# Altium footprint library DECODER BCD.PcbLib: 3 footprints
Each footprint in its own frame and in the unit in brackets; x right, y up, seen from the top. Pads: shape width x height; smd on the part's side, far side on the other; paste and mask are expansions set on the pad; w line width, h text height; cw(c..) or ccw(c..) is an arc to the next point about the centre after c.
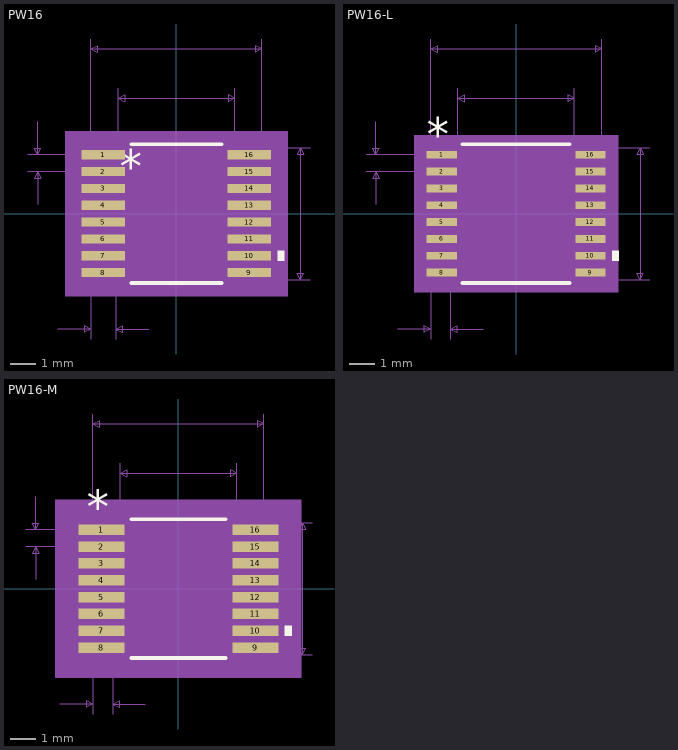
[diagram p0: the footprints below, top view; thin cyan lines are the x and y axes]

## PW16 [mil]
pads (16):
  rect 66x14 smd: 1(-111,89.57) 2(-111,63.98) 3(-111,38.39) 4(-111,12.8) 5(-111,-12.8) 6(-111,-38.39) 7(-111,-63.98) 8(-111,-89.57) 9(111,-89.57) 10(111,-63.98) 11(111,-38.39) 12(111,-12.8) 13(111,12.8) 14(111,38.39) 15(111,63.98) 16(111,89.57)
Top Overlay:
  region: 154,-56.48 164,-56.48 164,-71.48 154,-71.48
  lines w6: -68.42,-105.5 68.42,-105.5 ; -68.42,105.5 68.42,105.5
  text "*" at -86,47.5 h50
Mechanical 5:
  region: 169,-125.5 -169,-125.5 -169,125.5 169,125.5
Mechanical 7:
  lines w1: -226,63.98 -111,63.98 ; -226,89.57 -111,89.57 ; -211,13.98 -211,63.98 ; -211,139.57 -211,89.57 ; -180,-175.5 -130,-175.5 ; -130,-190.5 -130,0 -130,265.5 ; -92,-190.5 -92,0 ; -88.5,0 -88.5,190.5 ; -42,-175.5 -92,-175.5 ; 0,-100.5 203.5,-100.5 ; 0,100.5 203.5,100.5 ; 88.5,0 88.5,190.5 ; 130,0 130,265.5 ; -211,63.98 -216,53.98 -206,53.98 -211,63.98 ; -211,89.57 -216,99.57 -206,99.57 -211,89.57 ; -130,-175.5 -140,-170.5 -140,-180.5 -130,-175.5 ; -130,250.5 130,250.5 ; -130,250.5 -120,255.5 -120,245.5 -130,250.5 ; -92,-175.5 -82,-170.5 -82,-180.5 -92,-175.5 ; -88.5,175.5 88.5,175.5 ; -88.5,175.5 -78.5,180.5 -78.5,170.5 -88.5,175.5 ; 88.5,175.5 78.5,180.5 78.5,170.5 88.5,175.5 ; 130,250.5 120,255.5 120,245.5 130,250.5 ; 188.5,-100.5 188.5,100.5 ; 188.5,-100.5 183.5,-90.5 193.5,-90.5 188.5,-100.5 ; 188.5,100.5 183.5,90.5 193.5,90.5 188.5,100.5
  text "Default Padstyle: RX66Y14D0T" at -350,-300.5 h50
  text "Pin One Padstyle: RX66Y14D0T" at -350,-360.5 h50
  text "Alt 1 Padstyle: OX60Y90D30P" at -337.5,-540.5 h50
  text "Alt 2 Padstyle: OX90Y60D30P" at -337.5,-600.5 h50
  text "0.177in/4.496mm" at -93.75,195.5 h25
  text "0.26in/6.604mm" at -87.5,270.5 h25
  text "0.201in/5.105mm" at 208.5,-12.5 h25
  text "0.026in/0.65mm" at -406,64.27 h25
  text "0.03in/0.762mm" at -198.5,-220.5 h25
Mechanical 13:
  lines w0: -12,100.5 ccw(c0,100.5) 12,100.5
  lines w1: -130,-95.57 -130,-83.57 -88.5,-83.57 -88.5,-95.57 -130,-95.57 ; -130,-69.98 -130,-57.98 -88.5,-57.98 -88.5,-69.98 -130,-69.98 ; -130,-44.39 -130,-32.39 -88.5,-32.39 -88.5,-44.39 -130,-44.39 ; -130,-18.8 -130,-6.8 -88.5,-6.8 -88.5,-18.8 -130,-18.8 ; -130,6.8 -130,18.8 -88.5,18.8 -88.5,6.8 -130,6.8 ; -130,32.39 -130,44.39 -88.5,44.39 -88.5,32.39 -130,32.39 ; -130,57.98 -130,69.98 -88.5,69.98 -88.5,57.98 -130,57.98 ; -130,83.57 -130,95.57 -88.5,95.57 -88.5,83.57 -130,83.57 ; -88.5,-100.5 88.5,-100.5 88.5,100.5 -88.5,100.5 -88.5,-100.5 ; 88.5,-95.57 88.5,-83.57 130,-83.57 130,-95.57 88.5,-95.57 ; 88.5,-69.98 88.5,-57.98 130,-57.98 130,-69.98 88.5,-69.98 ; 88.5,-44.39 88.5,-32.39 130,-32.39 130,-44.39 88.5,-44.39 ; 88.5,-18.8 88.5,-6.8 130,-6.8 130,-18.8 88.5,-18.8 ; 88.5,6.8 88.5,18.8 130,18.8 130,6.8 88.5,6.8 ; 88.5,32.39 88.5,44.39 130,44.39 130,32.39 88.5,32.39 ; 88.5,57.98 88.5,69.98 130,69.98 130,57.98 88.5,57.98 ; 88.5,83.57 88.5,95.57 130,95.57 130,83.57 88.5,83.57
  text "*" at -86,47.5 h50
Mechanical 15:
  region: -98.5,-104.36 -154,-104.36 -154,104.36 -98.5,104.36 -98.5,110.5 98.5,110.5 98.5,104.36 154,104.36 154,-104.36 98.5,-104.36 98.5,-110.5 -98.5,-110.5
  lines w6: -154,-104.36 -154,104.36 -98.5,104.36 -98.5,110.5 98.5,110.5 98.5,104.36 154,104.36 154,-104.36 98.5,-104.36 98.5,-110.5 -98.5,-110.5 -98.5,-104.36 -154,-104.36
3D body: height 10, standoff 0, extent 0,0 10,10

## PW16-L [mil]
pads (16):
  rect 46x12 smd paste+0 mask+0: 1(-113,89.57) 2(-113,63.98) 3(-113,38.39) 4(-113,12.8) 5(-113,-12.8) 6(-113,-38.39) 7(-113,-63.98) 8(-113,-89.57) 9(113,-89.57) 10(113,-63.98) 11(113,-38.39) 12(113,-12.8) 13(113,12.8) 14(113,38.39) 15(113,63.98) 16(113,89.57)
Top Overlay:
  region: 146,-56.48 156,-56.48 156,-71.48 146,-71.48
  lines w6: -81.46,-105.5 81.46,-105.5 ; -81.46,105.5 81.46,105.5
  text "*" at -135.5,96.57 h50
Mechanical 5:
  region: 155,-119.5 -155,-119.5 -155,119.5 155,119.5
Mechanical 7:
  lines w1: -228,63.98 -113,63.98 ; -228,89.57 -113,89.57 ; -213,13.98 -213,63.98 ; -213,139.57 -213,89.57 ; -180,-175.5 -130,-175.5 ; -130,-190.5 -130,0 -130,265.5 ; -100,-190.5 -100,0 ; -88.5,0 -88.5,190.5 ; -50,-175.5 -100,-175.5 ; 0,-100.5 203.5,-100.5 ; 0,100.5 203.5,100.5 ; 88.5,0 88.5,190.5 ; 130,0 130,265.5 ; -213,63.98 -218,53.98 -208,53.98 -213,63.98 ; -213,89.57 -218,99.57 -208,99.57 -213,89.57 ; -130,-175.5 -140,-170.5 -140,-180.5 -130,-175.5 ; -130,250.5 130,250.5 ; -130,250.5 -120,255.5 -120,245.5 -130,250.5 ; -100,-175.5 -90,-170.5 -90,-180.5 -100,-175.5 ; -88.5,175.5 88.5,175.5 ; -88.5,175.5 -78.5,180.5 -78.5,170.5 -88.5,175.5 ; 88.5,175.5 78.5,180.5 78.5,170.5 88.5,175.5 ; 130,250.5 120,255.5 120,245.5 130,250.5 ; 188.5,-100.5 188.5,100.5 ; 188.5,-100.5 183.5,-90.5 193.5,-90.5 188.5,-100.5 ; 188.5,100.5 183.5,90.5 193.5,90.5 188.5,100.5
  text "Default Padstyle: RX46Y12D0T" at -350,-300.5 h50
  text "Pin One Padstyle: RX46Y12D0T" at -350,-360.5 h50
  text "Alt 1 Padstyle: OX60Y90D30P" at -337.5,-540.5 h50
  text "Alt 2 Padstyle: OX90Y60D30P" at -337.5,-600.5 h50
  text "0.177in/4.496mm" at -93.75,195.5 h25
  text "0.26in/6.604mm" at -87.5,270.5 h25
  text "0.201in/5.105mm" at 208.5,-12.5 h25
  text "0.026in/0.65mm" at -408,64.27 h25
  text "0.03in/0.762mm" at -202.5,-220.5 h25
Mechanical 13:
  lines w0: -12,100.5 ccw(c0,100.5) 12,100.5
  lines w1: -130,-95.57 -130,-83.57 -88.5,-83.57 -88.5,-95.57 -130,-95.57 ; -130,-69.98 -130,-57.98 -88.5,-57.98 -88.5,-69.98 -130,-69.98 ; -130,-44.39 -130,-32.39 -88.5,-32.39 -88.5,-44.39 -130,-44.39 ; -130,-18.8 -130,-6.8 -88.5,-6.8 -88.5,-18.8 -130,-18.8 ; -130,6.8 -130,18.8 -88.5,18.8 -88.5,6.8 -130,6.8 ; -130,32.39 -130,44.39 -88.5,44.39 -88.5,32.39 -130,32.39 ; -130,57.98 -130,69.98 -88.5,69.98 -88.5,57.98 -130,57.98 ; -130,83.57 -130,95.57 -88.5,95.57 -88.5,83.57 -130,83.57 ; -88.5,-100.5 88.5,-100.5 88.5,100.5 -88.5,100.5 -88.5,-100.5 ; 88.5,-95.57 88.5,-83.57 130,-83.57 130,-95.57 88.5,-95.57 ; 88.5,-69.98 88.5,-57.98 130,-57.98 130,-69.98 88.5,-69.98 ; 88.5,-44.39 88.5,-32.39 130,-32.39 130,-44.39 88.5,-44.39 ; 88.5,-18.8 88.5,-6.8 130,-6.8 130,-18.8 88.5,-18.8 ; 88.5,6.8 88.5,18.8 130,18.8 130,6.8 88.5,6.8 ; 88.5,32.39 88.5,44.39 130,44.39 130,32.39 88.5,32.39 ; 88.5,57.98 88.5,69.98 130,69.98 130,57.98 88.5,57.98 ; 88.5,83.57 88.5,95.57 130,95.57 130,83.57 88.5,83.57
  text "*" at -86,47.5 h50
Mechanical 15:
  region: -92.5,-99.57 -140,-99.57 -140,99.57 -92.5,99.57 -92.5,104.5 92.5,104.5 92.5,99.57 140,99.57 140,-99.57 92.5,-99.57 92.5,-104.5 -92.5,-104.5
  lines w6: -140,-99.57 -140,99.57 -92.5,99.57 -92.5,104.5 92.5,104.5 92.5,99.57 140,99.57 140,-99.57 92.5,-99.57 92.5,-104.5 -92.5,-104.5 -92.5,-99.57 -140,-99.57
3D body: height 10, standoff 0, extent 0,0 10,10

## PW16-M [mil]
pads (16):
  rect 70x16 smd paste+0 mask+0: 1(-117,89.57) 2(-117,63.98) 3(-117,38.39) 4(-117,12.8) 5(-117,-12.8) 6(-117,-38.39) 7(-117,-63.98) 8(-117,-89.57) 9(117,-89.57) 10(117,-63.98) 11(117,-38.39) 12(117,-12.8) 13(117,12.8) 14(117,38.39) 15(117,63.98) 16(117,89.57)
Top Overlay:
  region: 162,-56.48 172,-56.48 172,-71.48 162,-71.48
  lines w6: -71.58,-105.5 71.58,-105.5 ; -71.58,105.5 71.58,105.5
  text "*" at -139.5,100.57 h50
Mechanical 5:
  region: 187,-135.5 -187,-135.5 -187,135.5 187,135.5
Mechanical 7:
  lines w1: -232,63.98 -117,63.98 ; -232,89.57 -117,89.57 ; -217,13.98 -217,63.98 ; -217,139.57 -217,89.57 ; -180,-175.5 -130,-175.5 ; -130,-190.5 -130,0 -130,265.5 ; -100,-190.5 -100,0 ; -88.5,0 -88.5,190.5 ; -50,-175.5 -100,-175.5 ; 0,-100.5 203.5,-100.5 ; 0,100.5 203.5,100.5 ; 88.5,0 88.5,190.5 ; 130,0 130,265.5 ; -217,63.98 -222,53.98 -212,53.98 -217,63.98 ; -217,89.57 -222,99.57 -212,99.57 -217,89.57 ; -130,-175.5 -140,-170.5 -140,-180.5 -130,-175.5 ; -130,250.5 130,250.5 ; -130,250.5 -120,255.5 -120,245.5 -130,250.5 ; -100,-175.5 -90,-170.5 -90,-180.5 -100,-175.5 ; -88.5,175.5 88.5,175.5 ; -88.5,175.5 -78.5,180.5 -78.5,170.5 -88.5,175.5 ; 88.5,175.5 78.5,180.5 78.5,170.5 88.5,175.5 ; 130,250.5 120,255.5 120,245.5 130,250.5 ; 188.5,-100.5 188.5,100.5 ; 188.5,-100.5 183.5,-90.5 193.5,-90.5 188.5,-100.5 ; 188.5,100.5 183.5,90.5 193.5,90.5 188.5,100.5
  text "Default Padstyle: RX70Y16D0T" at -350,-300.5 h50
  text "Pin One Padstyle: RX70Y16D0T" at -350,-360.5 h50
  text "Alt 1 Padstyle: OX60Y90D30P" at -337.5,-540.5 h50
  text "Alt 2 Padstyle: OX90Y60D30P" at -337.5,-600.5 h50
  text "0.177in/4.496mm" at -93.75,195.5 h25
  text "0.26in/6.604mm" at -87.5,270.5 h25
  text "0.201in/5.105mm" at 208.5,-12.5 h25
  text "0.026in/0.65mm" at -412,64.27 h25
  text "0.03in/0.762mm" at -202.5,-220.5 h25
Mechanical 13:
  lines w0: -12,100.5 ccw(c0,100.5) 12,100.5
  lines w1: -130,-95.57 -130,-83.57 -88.5,-83.57 -88.5,-95.57 -130,-95.57 ; -130,-69.98 -130,-57.98 -88.5,-57.98 -88.5,-69.98 -130,-69.98 ; -130,-44.39 -130,-32.39 -88.5,-32.39 -88.5,-44.39 -130,-44.39 ; -130,-18.8 -130,-6.8 -88.5,-6.8 -88.5,-18.8 -130,-18.8 ; -130,6.8 -130,18.8 -88.5,18.8 -88.5,6.8 -130,6.8 ; -130,32.39 -130,44.39 -88.5,44.39 -88.5,32.39 -130,32.39 ; -130,57.98 -130,69.98 -88.5,69.98 -88.5,57.98 -130,57.98 ; -130,83.57 -130,95.57 -88.5,95.57 -88.5,83.57 -130,83.57 ; -88.5,-100.5 88.5,-100.5 88.5,100.5 -88.5,100.5 -88.5,-100.5 ; 88.5,-95.57 88.5,-83.57 130,-83.57 130,-95.57 88.5,-95.57 ; 88.5,-69.98 88.5,-57.98 130,-57.98 130,-69.98 88.5,-69.98 ; 88.5,-44.39 88.5,-32.39 130,-32.39 130,-44.39 88.5,-44.39 ; 88.5,-18.8 88.5,-6.8 130,-6.8 130,-18.8 88.5,-18.8 ; 88.5,6.8 88.5,18.8 130,18.8 130,6.8 88.5,6.8 ; 88.5,32.39 88.5,44.39 130,44.39 130,32.39 88.5,32.39 ; 88.5,57.98 88.5,69.98 130,69.98 130,57.98 88.5,57.98 ; 88.5,83.57 88.5,95.57 130,95.57 130,83.57 88.5,83.57
  text "*" at -86,47.5 h50
Mechanical 15:
  region: -108.5,-117.57 -172,-117.57 -172,117.57 -108.5,117.57 -108.5,120.5 108.5,120.5 108.5,117.57 172,117.57 172,-117.57 108.5,-117.57 108.5,-120.5 -108.5,-120.5
  lines w6: -172,-117.57 -172,117.57 -108.5,117.57 -108.5,120.5 108.5,120.5 108.5,117.57 172,117.57 172,-117.57 108.5,-117.57 108.5,-120.5 -108.5,-120.5 -108.5,-117.57 -172,-117.57
3D body: height 10, standoff 0, extent 0,0 10,10